# Altium footprint library leadic_footp.PcbLib: 46 footprints (part 2 of 3)
Each footprint in its own frame and in the unit in brackets; x right, y up, seen from the top. Pads: shape width x height; smd on the part's side, far side on the other; paste and mask are expansions set on the pad; w line width, h text height; cw(c..) or ccw(c..) is an arc to the next point about the centre after c.
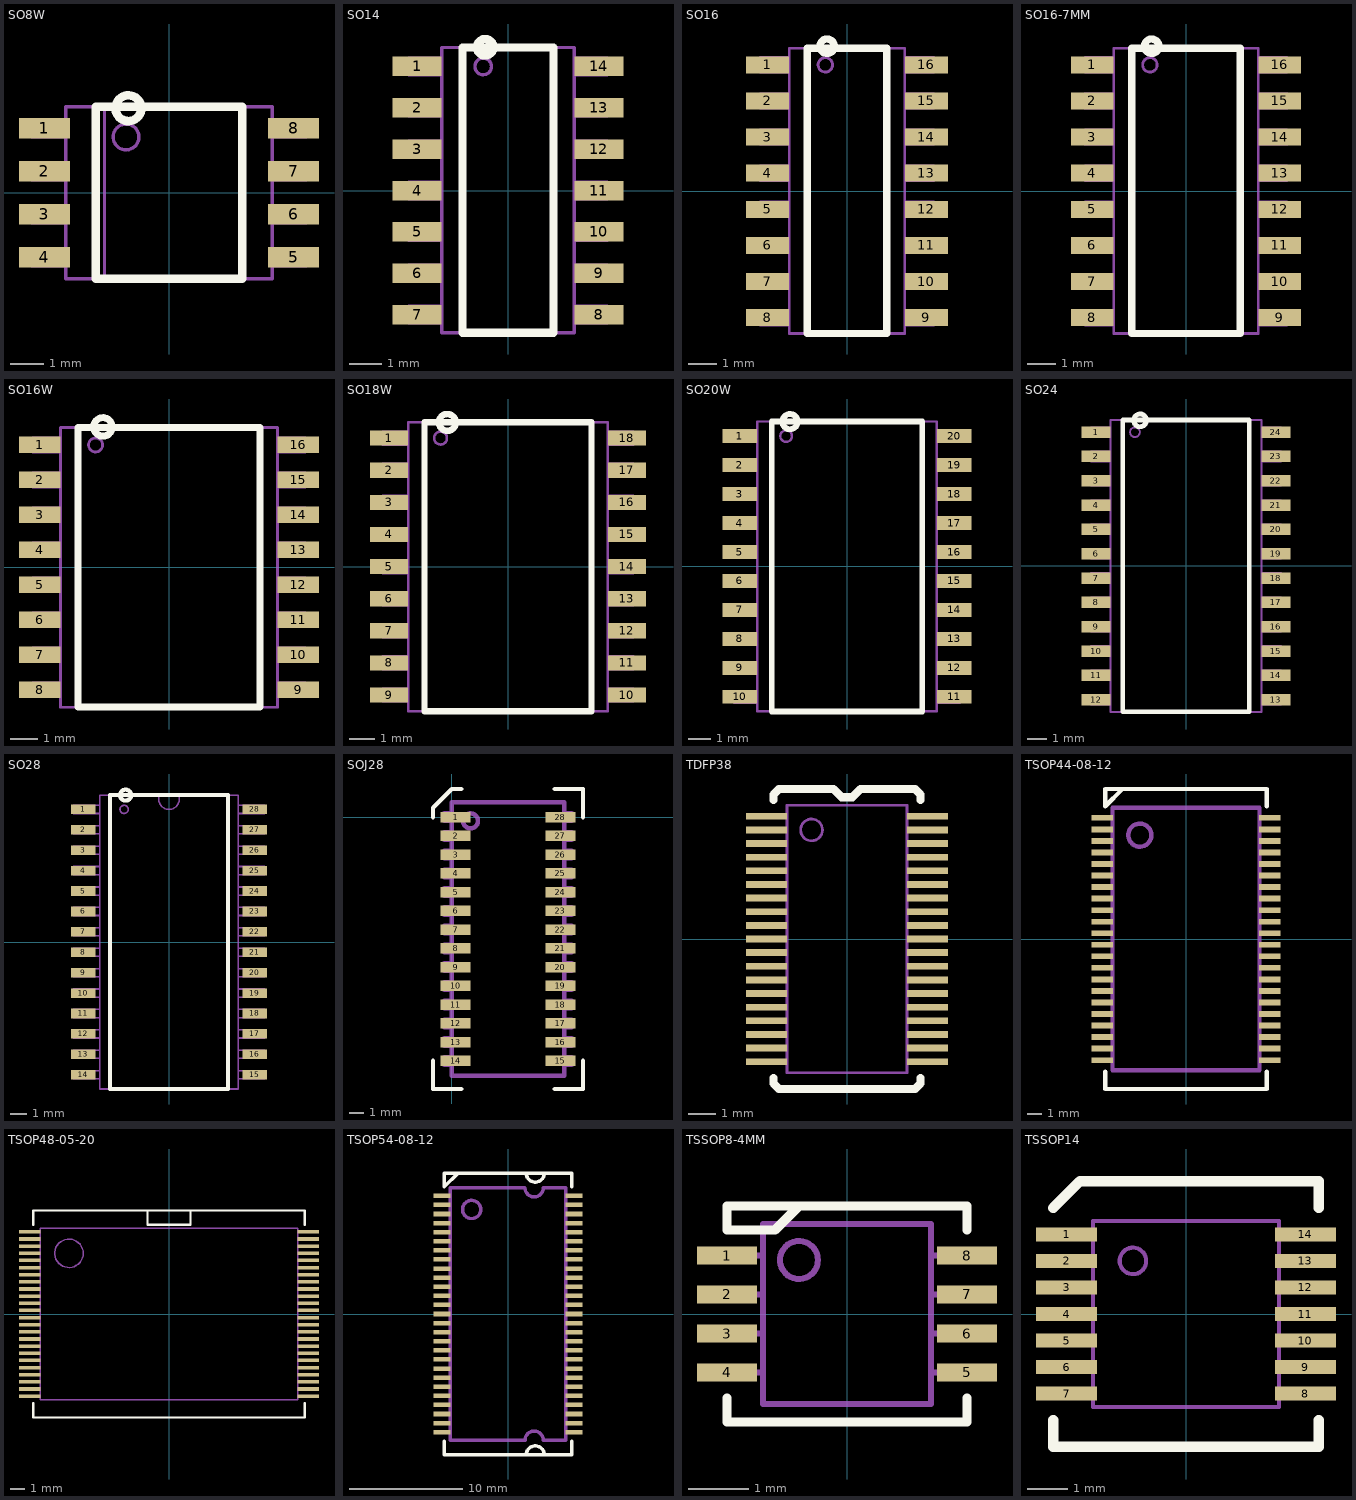
[diagram p1: the footprints below, top view; thin cyan lines are the x and y axes]

## SO8W [mm]
pads (8):
  rect 1.5x0.6 smd: 1(-3.683,1.905) 2(-3.683,0.635) 3(-3.683,-0.635) 4(-3.683,-1.905) 5(3.683,-1.905) 6(3.683,-0.635) 7(3.683,0.635) 8(3.683,1.905)
Top Overlay:
  circle w0.254: c-1.2,2.5 r0.381
  lines w0.254: -2.159,-2.54 2.159,-2.54 2.159,2.54 -2.159,2.54 -2.159,-2.54
Mechanical 1:
  circle w0.1: c-1.27,1.651 r0.381
  lines w0.1: -3.048,-2.159 -4.064,-2.159 -4.064,-1.651 -3.048,-1.651 ; -3.048,-0.889 -4.064,-0.889 -4.064,-0.381 -3.048,-0.381 ; -3.048,0.381 -4.064,0.381 -4.064,0.889 -3.048,0.889 ; -3.048,1.651 -4.064,1.651 -4.064,2.159 -3.048,2.159 ; -1.905,-2.54 -1.905,2.54 ; 3.048,-2.159 4.064,-2.159 4.064,-1.651 3.048,-1.651 ; 3.048,-0.889 4.064,-0.889 4.064,-0.381 3.048,-0.381 ; 3.048,0.381 4.064,0.381 4.064,0.889 3.048,0.889 ; 3.048,1.651 4.064,1.651 4.064,2.159 3.048,2.159 ; -3.048,-2.54 3.048,-2.54 3.048,2.54 -3.048,2.54 -3.048,-2.54
3D body: height 1.8, standoff 0.2, extent -2.9,-2.5 2.9,2.5
3D body: height 1.1, standoff 0, extent 1.691,-0.885 4.191,-0.385
3D body: height 1.1, standoff 0, extent 1.691,-2.155 4.191,-1.655
3D body: height 1.1, standoff 0, extent 1.691,1.655 4.191,2.155
3D body: height 1.1, standoff 0, extent 1.691,0.385 4.191,0.885
3D body: height 1.1, standoff 0, extent -4.191,-0.885 -1.691,-0.385
3D body: height 1.1, standoff 0, extent -4.191,-2.155 -1.691,-1.655
3D body: height 1.1, standoff 0, extent -4.191,1.655 -1.691,2.155
3D body: height 1.1, standoff 0, extent -4.191,0.385 -1.691,0.885

## SO14 [mm]
pads (14):
  rect 1.5x0.6 smd: 1(-2.794,3.81) 2(-2.794,2.54) 3(-2.794,1.27) 4(-2.794,0) 5(-2.794,-1.27) 6(-2.794,-2.54) 7(-2.794,-3.81) 8(2.794,-3.81) 9(2.794,-2.54) 10(2.794,-1.27) 11(2.794,0) 12(2.794,1.27) 13(2.794,2.54) 14(2.794,3.81)
Top Overlay:
  circle w0.254: c-0.7,4.4 r0.254
  lines w0.254: -1.397,-4.369 -1.397,4.394 1.397,4.394 1.397,-4.369 -1.397,-4.369
Mechanical 1:
  circle w0.1: c-0.762,3.81 r0.254
  lines w0.1: -2.032,-4.064 -3.048,-4.064 -3.048,-3.556 -2.032,-3.556 ; -2.032,-2.794 -3.048,-2.794 -3.048,-2.286 -2.032,-2.286 ; -2.032,-1.524 -3.048,-1.524 -3.048,-1.016 -2.032,-1.016 ; -2.032,-0.254 -3.048,-0.254 -3.048,0.254 -2.032,0.254 ; -2.032,1.016 -3.048,1.016 -3.048,1.524 -2.032,1.524 ; -2.032,2.286 -3.048,2.286 -3.048,2.794 -2.032,2.794 ; -2.032,3.556 -3.048,3.556 -3.048,4.064 -2.032,4.064 ; -1.397,-4.369 -1.397,4.394 ; 2.032,-4.064 3.048,-4.064 3.048,-3.556 2.032,-3.556 ; 2.032,-2.794 3.048,-2.794 3.048,-2.286 2.032,-2.286 ; 2.032,-1.524 3.048,-1.524 3.048,-1.016 2.032,-1.016 ; 2.032,-0.254 3.048,-0.254 3.048,0.254 2.032,0.254 ; 2.032,1.016 3.048,1.016 3.048,1.524 2.032,1.524 ; 2.032,2.286 3.048,2.286 3.048,2.794 2.032,2.794 ; 2.032,3.556 3.048,3.556 3.048,4.064 2.032,4.064 ; -2.032,-4.369 -2.032,4.394 2.032,4.394 2.032,-4.369 -2.032,-4.369
3D body: height 1.1, standoff 0, extent -3.175,-2.79 -0.675,-2.29
3D body: height 1.1, standoff 0, extent -3.175,-4.06 -0.675,-3.56
3D body: height 1.1, standoff 0, extent -3.175,-0.25 -0.675,0.25
3D body: height 1.1, standoff 0, extent -3.175,-1.52 -0.675,-1.02
3D body: height 1.1, standoff 0, extent -3.175,1.02 -0.675,1.52
3D body: height 1.1, standoff 0, extent -3.175,2.29 -0.675,2.79
3D body: height 1.1, standoff 0, extent 0.675,-4.06 3.175,-3.56
3D body: height 1.1, standoff 0, extent 0.675,-1.52 3.175,-1.02
3D body: height 1.1, standoff 0, extent 0.675,-2.79 3.175,-2.29
3D body: height 1.1, standoff 0, extent 0.675,1.02 3.175,1.52
3D body: height 1.1, standoff 0, extent 0.675,-0.25 3.175,0.25
3D body: height 1.1, standoff 0, extent 0.675,3.56 3.175,4.06
3D body: height 1.1, standoff 0, extent 0.675,2.29 3.175,2.79
3D body: height 1.1, standoff 0, extent -3.175,3.56 -0.675,4.06
3D body: height 1.8, standoff 0.2, extent -1.9,-4.4 1.91,4.4

## SO16 [mm] "6mm wide"
height 1.8
pads (16):
  rect 1.5x0.6 smd: 1(-2.794,4.445) 2(-2.794,3.175) 3(-2.794,1.905) 4(-2.794,0.635) 5(-2.794,-0.635) 6(-2.794,-1.905) 7(-2.794,-3.175) 8(-2.794,-4.445) 9(2.794,-4.445) 10(2.794,-3.175) 11(2.794,-1.905) 12(2.794,-0.635) 13(2.794,0.635) 14(2.794,1.905) 15(2.794,3.175) 16(2.794,4.445)
Top Overlay:
  circle w0.254: c-0.7,5.1 r0.254
  lines w0.254: -1.397,-5.004 1.397,-5.004 1.397,5.029 -1.397,5.029 -1.397,-5.004
Mechanical 1:
  circle w0.1: c-0.762,4.445 r0.254
  lines w0.1: -2.032,-4.699 -3.048,-4.699 -3.048,-4.191 -2.032,-4.191 ; -2.032,-3.429 -3.048,-3.429 -3.048,-2.921 -2.032,-2.921 ; -2.032,-2.159 -3.048,-2.159 -3.048,-1.651 -2.032,-1.651 ; -2.032,-0.889 -3.048,-0.889 -3.048,-0.381 -2.032,-0.381 ; -2.032,0.381 -3.048,0.381 -3.048,0.889 -2.032,0.889 ; -2.032,1.651 -3.048,1.651 -3.048,2.159 -2.032,2.159 ; -2.032,2.921 -3.048,2.921 -3.048,3.429 -2.032,3.429 ; -2.032,4.191 -3.048,4.191 -3.048,4.699 -2.032,4.699 ; -1.397,-5.004 -1.397,5.029 ; 2.032,-4.699 3.048,-4.699 3.048,-4.191 2.032,-4.191 ; 2.032,-3.429 3.048,-3.429 3.048,-2.921 2.032,-2.921 ; 2.032,-2.159 3.048,-2.159 3.048,-1.651 2.032,-1.651 ; 2.032,-0.889 3.048,-0.889 3.048,-0.381 2.032,-0.381 ; 2.032,0.381 3.048,0.381 3.048,0.889 2.032,0.889 ; 2.032,1.651 3.048,1.651 3.048,2.159 2.032,2.159 ; 2.032,2.921 3.048,2.921 3.048,3.429 2.032,3.429 ; 2.032,4.191 3.048,4.191 3.048,4.699 2.032,4.699 ; -2.032,-5.004 2.032,-5.004 2.032,5.029 -2.032,5.029 -2.032,-5.004
3D body: height 1.8, standoff 0.2, extent -1.9,-5 1.91,5
3D body: height 1.1, standoff 0, extent -3.175,-4.695 -0.675,-4.195
3D body: height 1.1, standoff 0, extent -3.175,-2.155 -0.675,-1.655
3D body: height 1.1, standoff 0, extent -3.175,-3.425 -0.675,-2.925
3D body: height 1.1, standoff 0, extent -3.175,0.385 -0.675,0.885
3D body: height 1.1, standoff 0, extent -3.175,-0.885 -0.675,-0.385
3D body: height 1.1, standoff 0, extent -3.175,1.655 -0.675,2.155
3D body: height 1.1, standoff 0, extent -3.175,2.925 -0.675,3.425
3D body: height 1.1, standoff 0, extent 0.675,-4.695 3.175,-4.195
3D body: height 1.1, standoff 0, extent 0.675,-3.425 3.175,-2.925
3D body: height 1.1, standoff 0, extent 0.675,-0.885 3.175,-0.385
3D body: height 1.1, standoff 0, extent 0.675,-2.155 3.175,-1.655
3D body: height 1.1, standoff 0, extent 0.675,1.655 3.175,2.155
3D body: height 1.1, standoff 0, extent 0.675,0.385 3.175,0.885
3D body: height 1.1, standoff 0, extent 0.675,4.195 3.175,4.695
3D body: height 1.1, standoff 0, extent 0.675,2.925 3.175,3.425
3D body: height 1.1, standoff 0, extent -3.175,4.195 -0.675,4.695

## SO16-7MM [mm] "7mm wide"
height 1.8
pads (16):
  rect 1.5x0.6 smd: 1(-3.302,4.445) 2(-3.302,3.175) 3(-3.302,1.905) 4(-3.302,0.635) 5(-3.302,-0.635) 6(-3.302,-1.905) 7(-3.302,-3.175) 8(-3.302,-4.445) 9(3.302,-4.445) 10(3.302,-3.175) 11(3.302,-1.905) 12(3.302,-0.635) 13(3.302,0.635) 14(3.302,1.905) 15(3.302,3.175) 16(3.302,4.445)
Top Overlay:
  circle w0.254: c-1.208,5.1 r0.254
  lines w0.254: -1.905,-5.004 -1.905,5.029 1.905,5.029 1.905,-5.004 -1.905,-5.004
Mechanical 1:
  circle w0.1: c-1.27,4.445 r0.254
  lines w0.1: -2.54,-4.699 -3.556,-4.699 -3.556,-4.191 -2.54,-4.191 ; -2.54,-3.429 -3.556,-3.429 -3.556,-2.921 -2.54,-2.921 ; -2.54,-2.159 -3.556,-2.159 -3.556,-1.651 -2.54,-1.651 ; -2.54,-0.889 -3.556,-0.889 -3.556,-0.381 -2.54,-0.381 ; -2.54,0.381 -3.556,0.381 -3.556,0.889 -2.54,0.889 ; -2.54,1.651 -3.556,1.651 -3.556,2.159 -2.54,2.159 ; -2.54,2.921 -3.556,2.921 -3.556,3.429 -2.54,3.429 ; -2.54,4.191 -3.556,4.191 -3.556,4.699 -2.54,4.699 ; -1.905,-5.004 -1.905,5.029 ; 2.54,-4.699 3.556,-4.699 3.556,-4.191 2.54,-4.191 ; 2.54,-3.429 3.556,-3.429 3.556,-2.921 2.54,-2.921 ; 2.54,-2.159 3.556,-2.159 3.556,-1.651 2.54,-1.651 ; 2.54,-0.889 3.556,-0.889 3.556,-0.381 2.54,-0.381 ; 2.54,0.381 3.556,0.381 3.556,0.889 2.54,0.889 ; 2.54,1.651 3.556,1.651 3.556,2.159 2.54,2.159 ; 2.54,2.921 3.556,2.921 3.556,3.429 2.54,3.429 ; 2.54,4.191 3.556,4.191 3.556,4.699 2.54,4.699 ; -2.54,-5.004 -2.54,5.029 2.54,5.029 2.54,-5.004 -2.54,-5.004
3D body: height 1.1, standoff 0, extent -3.683,4.195 -1.183,4.695
3D body: height 1.1, standoff 0, extent 1.183,2.925 3.683,3.425
3D body: height 1.1, standoff 0, extent 1.183,4.195 3.683,4.695
3D body: height 1.1, standoff 0, extent 1.183,0.385 3.683,0.885
3D body: height 1.1, standoff 0, extent 1.183,1.655 3.683,2.155
3D body: height 1.1, standoff 0, extent 1.183,-2.155 3.683,-1.655
3D body: height 1.1, standoff 0, extent 1.183,-0.885 3.683,-0.385
3D body: height 1.1, standoff 0, extent 1.183,-3.425 3.683,-2.925
3D body: height 1.1, standoff 0, extent 1.183,-4.695 3.683,-4.195
3D body: height 1.1, standoff 0, extent -3.683,2.925 -1.183,3.425
3D body: height 1.1, standoff 0, extent -3.683,1.655 -1.183,2.155
3D body: height 1.1, standoff 0, extent -3.683,-0.885 -1.183,-0.385
3D body: height 1.1, standoff 0, extent -3.683,0.385 -1.183,0.885
3D body: height 1.1, standoff 0, extent -3.683,-3.425 -1.183,-2.925
3D body: height 1.1, standoff 0, extent -3.683,-2.155 -1.183,-1.655
3D body: height 1.1, standoff 0, extent -3.683,-4.695 -1.183,-4.195
3D body: height 1.8, standoff 0.2, extent -2.408,-5 2.413,5

## SO16W [mm]
height 1.8
pads (16):
  rect 1.5x0.6 smd: 1(-4.699,4.445) 2(-4.699,3.175) 3(-4.699,1.905) 4(-4.699,0.635) 5(-4.699,-0.635) 6(-4.699,-1.905) 7(-4.699,-3.175) 8(-4.699,-4.445) 9(4.699,-4.445) 10(4.699,-3.175) 11(4.699,-1.905) 12(4.699,-0.635) 13(4.699,0.635) 14(4.699,1.905) 15(4.699,3.175) 16(4.699,4.445)
Top Overlay:
  circle w0.254: c-2.4,5.1 r0.336
  lines w0.254: -3.302,-5.08 3.302,-5.08 3.302,5.08 -3.302,5.08 -3.302,-5.08
Mechanical 1:
  circle w0.1: c-2.667,4.445 r0.254
  lines w0.1: -3.937,-4.699 -4.953,-4.699 -4.953,-4.191 -3.937,-4.191 ; -3.937,-3.429 -4.953,-3.429 -4.953,-2.921 -3.937,-2.921 ; -3.937,-2.159 -4.953,-2.159 -4.953,-1.651 -3.937,-1.651 ; -3.937,-0.889 -4.953,-0.889 -4.953,-0.381 -3.937,-0.381 ; -3.937,0.381 -4.953,0.381 -4.953,0.889 -3.937,0.889 ; -3.937,1.651 -4.953,1.651 -4.953,2.159 -3.937,2.159 ; -3.937,2.921 -4.953,2.921 -4.953,3.429 -3.937,3.429 ; -3.937,4.191 -4.953,4.191 -4.953,4.699 -3.937,4.699 ; -3.302,-5.08 -3.302,5.08 ; 3.937,-4.699 4.953,-4.699 4.953,-4.191 3.937,-4.191 ; 3.937,-3.429 4.953,-3.429 4.953,-2.921 3.937,-2.921 ; 3.937,-2.159 4.953,-2.159 4.953,-1.651 3.937,-1.651 ; 3.937,-0.889 4.953,-0.889 4.953,-0.381 3.937,-0.381 ; 3.937,0.381 4.953,0.381 4.953,0.889 3.937,0.889 ; 3.937,1.651 4.953,1.651 4.953,2.159 3.937,2.159 ; 3.937,2.921 4.953,2.921 4.953,3.429 3.937,3.429 ; 3.937,4.191 4.953,4.191 4.953,4.699 3.937,4.699 ; -3.937,-5.08 3.937,-5.08 3.937,5.08 -3.937,5.08 -3.937,-5.08
3D body: height 1.1, standoff 0, extent -5.08,4.195 -2.58,4.695
3D body: height 1.1, standoff 0, extent -5.08,2.925 -2.58,3.425
3D body: height 1.1, standoff 0, extent -5.08,0.385 -2.58,0.885
3D body: height 1.1, standoff 0, extent -5.08,1.655 -2.58,2.155
3D body: height 1.1, standoff 0, extent -5.08,-2.155 -2.58,-1.655
3D body: height 1.1, standoff 0, extent -5.08,-0.885 -2.58,-0.385
3D body: height 1.1, standoff 0, extent -5.08,-4.695 -2.58,-4.195
3D body: height 1.1, standoff 0, extent -5.08,-3.425 -2.58,-2.925
3D body: height 1.1, standoff 0, extent 2.58,2.925 5.08,3.425
3D body: height 1.1, standoff 0, extent 2.58,4.195 5.08,4.695
3D body: height 1.1, standoff 0, extent 2.58,0.385 5.08,0.885
3D body: height 1.1, standoff 0, extent 2.58,1.655 5.08,2.155
3D body: height 1.1, standoff 0, extent 2.58,-2.155 5.08,-1.655
3D body: height 1.1, standoff 0, extent 2.58,-0.885 5.08,-0.385
3D body: height 1.1, standoff 0, extent 2.58,-3.425 5.08,-2.925
3D body: height 1.1, standoff 0, extent 2.58,-4.695 5.08,-4.195
3D body: height 1.8, standoff 0.2, extent -3.8,-5.1 3.8,5.1

## SO18W [mm]
height 1.8
pads (18):
  rect 1.5x0.6 smd: 1(-4.699,5.08) 2(-4.699,3.81) 3(-4.699,2.54) 4(-4.699,1.27) 5(-4.699,0) 6(-4.699,-1.27) 7(-4.699,-2.54) 8(-4.699,-3.81) 9(-4.699,-5.08) 10(4.699,-5.08) 11(4.699,-3.81) 12(4.699,-2.54) 13(4.699,-1.27) 14(4.699,0) 15(4.699,1.27) 16(4.699,2.54) 17(4.699,3.81) 18(4.699,5.08)
Top Overlay:
  circle w0.254: c-2.4,5.7 r0.334
  lines w0.254: -3.302,-5.715 -3.302,5.715 3.302,5.715 3.302,-5.715 -3.302,-5.715
Mechanical 1:
  circle w0.1: c-2.667,5.08 r0.254
  lines w0.1: -3.937,-5.334 -4.953,-5.334 -4.953,-4.826 -3.937,-4.826 ; -3.937,-4.064 -4.953,-4.064 -4.953,-3.556 -3.937,-3.556 ; -3.937,-2.794 -4.953,-2.794 -4.953,-2.286 -3.937,-2.286 ; -3.937,-1.524 -4.953,-1.524 -4.953,-1.016 -3.937,-1.016 ; -3.937,-0.254 -4.953,-0.254 -4.953,0.254 -3.937,0.254 ; -3.937,1.016 -4.953,1.016 -4.953,1.524 -3.937,1.524 ; -3.937,2.286 -4.953,2.286 -4.953,2.794 -3.937,2.794 ; -3.937,3.556 -4.953,3.556 -4.953,4.064 -3.937,4.064 ; -3.937,4.826 -4.953,4.826 -4.953,5.334 -3.937,5.334 ; -3.302,-5.715 -3.302,5.715 ; 3.937,-5.334 4.953,-5.334 4.953,-4.826 3.937,-4.826 ; 3.937,-4.064 4.953,-4.064 4.953,-3.556 3.937,-3.556 ; 3.937,-2.794 4.953,-2.794 4.953,-2.286 3.937,-2.286 ; 3.937,-1.524 4.953,-1.524 4.953,-1.016 3.937,-1.016 ; 3.937,-0.254 4.953,-0.254 4.953,0.254 3.937,0.254 ; 3.937,1.016 4.953,1.016 4.953,1.524 3.937,1.524 ; 3.937,2.286 4.953,2.286 4.953,2.794 3.937,2.794 ; 3.937,3.556 4.953,3.556 4.953,4.064 3.937,4.064 ; 3.937,4.826 4.953,4.826 4.953,5.334 3.937,5.334 ; -3.937,-5.715 -3.937,5.715 3.937,5.715 3.937,-5.715 -3.937,-5.715
3D body: height 1.1, standoff 0, extent -5.08,-5.33 -2.58,-4.83
3D body: height 1.1, standoff 0, extent 2.58,-5.33 5.08,-4.83
3D body: height 1.1, standoff 0, extent 2.58,-4.06 5.08,-3.56
3D body: height 1.1, standoff 0, extent 2.58,-2.79 5.08,-2.29
3D body: height 1.1, standoff 0, extent 2.58,-0.25 5.08,0.25
3D body: height 1.1, standoff 0, extent 2.58,-1.52 5.08,-1.02
3D body: height 1.1, standoff 0, extent 2.58,2.29 5.08,2.79
3D body: height 1.1, standoff 0, extent 2.58,1.02 5.08,1.52
3D body: height 1.1, standoff 0, extent 2.58,4.83 5.08,5.33
3D body: height 1.1, standoff 0, extent 2.58,3.56 5.08,4.06
3D body: height 1.1, standoff 0, extent -5.08,-2.79 -2.58,-2.29
3D body: height 1.1, standoff 0, extent -5.08,-4.06 -2.58,-3.56
3D body: height 1.1, standoff 0, extent -5.08,-0.25 -2.58,0.25
3D body: height 1.1, standoff 0, extent -5.08,-1.52 -2.58,-1.02
3D body: height 1.1, standoff 0, extent -5.08,2.29 -2.58,2.79
3D body: height 1.1, standoff 0, extent -5.08,1.02 -2.58,1.52
3D body: height 1.1, standoff 0, extent -5.08,3.56 -2.58,4.06
3D body: height 1.1, standoff 0, extent -5.08,4.83 -2.58,5.33
3D body: height 1.8, standoff 0.2, extent -3.8,-5.7 3.8,5.7

## SO20W [mm]
height 1.8
pads (20):
  rect 1.5x0.6 smd: 1(-4.699,5.715) 2(-4.699,4.445) 3(-4.699,3.175) 4(-4.699,1.905) 5(-4.699,0.635) 6(-4.699,-0.635) 7(-4.699,-1.905) 8(-4.699,-3.175) 9(-4.699,-4.445) 10(-4.699,-5.715) 11(4.699,-5.715) 12(4.699,-4.445) 13(4.699,-3.175) 14(4.699,-1.905) 15(4.699,-0.635) 16(4.699,0.635) 17(4.699,1.905) 18(4.699,3.175) 19(4.699,4.445) 20(4.699,5.715)
Top Overlay:
  circle w0.254: c-2.5,6.35 r0.333
  lines w0.254: -3.302,-6.35 -3.302,6.35 3.302,6.35 3.302,-6.35 -3.302,-6.35
Mechanical 1:
  circle w0.1: c-2.667,5.715 r0.254
  lines w0.1: -3.937,-5.969 -4.953,-5.969 -4.953,-5.461 -3.937,-5.461 ; -3.937,-4.699 -4.953,-4.699 -4.953,-4.191 -3.937,-4.191 ; -3.937,-3.429 -4.953,-3.429 -4.953,-2.921 -3.937,-2.921 ; -3.937,-2.159 -4.953,-2.159 -4.953,-1.651 -3.937,-1.651 ; -3.937,-0.889 -4.953,-0.889 -4.953,-0.381 -3.937,-0.381 ; -3.937,0.381 -4.953,0.381 -4.953,0.889 -3.937,0.889 ; -3.937,1.651 -4.953,1.651 -4.953,2.159 -3.937,2.159 ; -3.937,2.921 -4.953,2.921 -4.953,3.429 -3.937,3.429 ; -3.937,4.191 -4.953,4.191 -4.953,4.699 -3.937,4.699 ; -3.937,5.461 -4.953,5.461 -4.953,5.969 -3.937,5.969 ; -3.302,-6.35 -3.302,6.35 ; 3.937,-5.969 4.953,-5.969 4.953,-5.461 3.937,-5.461 ; 3.937,-4.699 4.953,-4.699 4.953,-4.191 3.937,-4.191 ; 3.937,-3.429 4.953,-3.429 4.953,-2.921 3.937,-2.921 ; 3.937,-2.159 4.953,-2.159 4.953,-1.651 3.937,-1.651 ; 3.937,-0.889 4.953,-0.889 4.953,-0.381 3.937,-0.381 ; 3.937,0.381 4.953,0.381 4.953,0.889 3.937,0.889 ; 3.937,1.651 4.953,1.651 4.953,2.159 3.937,2.159 ; 3.937,2.921 4.953,2.921 4.953,3.429 3.937,3.429 ; 3.937,4.191 4.953,4.191 4.953,4.699 3.937,4.699 ; 3.937,5.461 4.953,5.461 4.953,5.969 3.937,5.969 ; -3.937,-6.35 -3.937,6.35 3.937,6.35 3.937,-6.35 -3.937,-6.35
3D body: height 1.1, standoff 0, extent -5.08,5.465 -2.58,5.965
3D body: height 1.1, standoff 0, extent -5.08,4.195 -2.58,4.695
3D body: height 1.1, standoff 0, extent -5.08,1.655 -2.58,2.155
3D body: height 1.1, standoff 0, extent -5.08,2.925 -2.58,3.425
3D body: height 1.1, standoff 0, extent -5.08,-0.885 -2.58,-0.385
3D body: height 1.1, standoff 0, extent -5.08,0.385 -2.58,0.885
3D body: height 1.1, standoff 0, extent -5.08,-3.425 -2.58,-2.925
3D body: height 1.1, standoff 0, extent -5.08,-2.155 -2.58,-1.655
3D body: height 1.1, standoff 0, extent 2.58,4.195 5.08,4.695
3D body: height 1.1, standoff 0, extent 2.58,5.465 5.08,5.965
3D body: height 1.1, standoff 0, extent 2.58,1.655 5.08,2.155
3D body: height 1.1, standoff 0, extent 2.58,2.925 5.08,3.425
3D body: height 1.1, standoff 0, extent 2.58,-0.885 5.08,-0.385
3D body: height 1.1, standoff 0, extent 2.58,0.385 5.08,0.885
3D body: height 1.1, standoff 0, extent 2.58,-2.155 5.08,-1.655
3D body: height 1.1, standoff 0, extent 2.58,-3.425 5.08,-2.925
3D body: height 1.1, standoff 0, extent 2.58,-5.965 5.08,-5.465
3D body: height 1.1, standoff 0, extent 2.58,-4.695 5.08,-4.195
3D body: height 1.1, standoff 0, extent -5.08,-4.695 -2.58,-4.195
3D body: height 1.1, standoff 0, extent -5.08,-5.965 -2.58,-5.465
3D body: height 1.8, standoff 0.2, extent -3.8,-6.4 3.8,6.4

## SO24 [mm]
height 1.8
pads (24):
  rect 1.5x0.6 smd: 1(-4.699,6.985) 2(-4.699,5.715) 3(-4.699,4.445) 4(-4.699,3.175) 5(-4.699,1.905) 6(-4.699,0.635) 7(-4.699,-0.635) 8(-4.699,-1.905) 9(-4.699,-3.175) 10(-4.699,-4.445) 11(-4.699,-5.715) 12(-4.699,-6.985) 13(4.699,-6.985) 14(4.699,-5.715) 15(4.699,-4.445) 16(4.699,-3.175) 17(4.699,-1.905) 18(4.699,-0.635) 19(4.699,0.635) 20(4.699,1.905) 21(4.699,3.175) 22(4.699,4.445) 23(4.699,5.715) 24(4.699,6.985)
Top Overlay:
  circle w0.254: c-2.4,7.6 r0.333
  lines w0.254: -3.302,-7.62 3.302,-7.62 3.302,7.62 -3.302,7.62 -3.302,-7.62
Mechanical 1:
  circle w0.1: c-2.667,6.985 r0.254
  lines w0.1: -3.937,-7.239 -4.953,-7.239 -4.953,-6.731 -3.937,-6.731 ; -3.937,-5.969 -4.953,-5.969 -4.953,-5.461 -3.937,-5.461 ; -3.937,-4.699 -4.953,-4.699 -4.953,-4.191 -3.937,-4.191 ; -3.937,-3.429 -4.953,-3.429 -4.953,-2.921 -3.937,-2.921 ; -3.937,-2.159 -4.953,-2.159 -4.953,-1.651 -3.937,-1.651 ; -3.937,-0.889 -4.953,-0.889 -4.953,-0.381 -3.937,-0.381 ; -3.937,0.381 -4.953,0.381 -4.953,0.889 -3.937,0.889 ; -3.937,1.651 -4.953,1.651 -4.953,2.159 -3.937,2.159 ; -3.937,2.921 -4.953,2.921 -4.953,3.429 -3.937,3.429 ; -3.937,4.191 -4.953,4.191 -4.953,4.699 -3.937,4.699 ; -3.937,5.461 -4.953,5.461 -4.953,5.969 -3.937,5.969 ; -3.937,6.731 -4.953,6.731 -4.953,7.239 -3.937,7.239 ; -3.302,-7.62 -3.302,7.62 ; 3.937,-7.239 4.953,-7.239 4.953,-6.731 3.937,-6.731 ; 3.937,-5.969 4.953,-5.969 4.953,-5.461 3.937,-5.461 ; 3.937,-4.699 4.953,-4.699 4.953,-4.191 3.937,-4.191 ; 3.937,-3.429 4.953,-3.429 4.953,-2.921 3.937,-2.921 ; 3.937,-2.159 4.953,-2.159 4.953,-1.651 3.937,-1.651 ; 3.937,-0.889 4.953,-0.889 4.953,-0.381 3.937,-0.381 ; 3.937,0.381 4.953,0.381 4.953,0.889 3.937,0.889 ; 3.937,1.651 4.953,1.651 4.953,2.159 3.937,2.159 ; 3.937,2.921 4.953,2.921 4.953,3.429 3.937,3.429 ; 3.937,4.191 4.953,4.191 4.953,4.699 3.937,4.699 ; 3.937,5.461 4.953,5.461 4.953,5.969 3.937,5.969 ; 3.937,6.731 4.953,6.731 4.953,7.239 3.937,7.239 ; -3.937,-7.62 3.937,-7.62 3.937,7.62 -3.937,7.62 -3.937,-7.62

## SO28 [mm]
height 1.8
pads (28):
  rect 1.5x0.6 smd: 1(-5.334,8.255) 2(-5.334,6.985) 3(-5.334,5.715) 4(-5.334,4.445) 5(-5.334,3.175) 6(-5.334,1.905) 7(-5.334,0.635) 8(-5.334,-0.635) 9(-5.334,-1.905) 10(-5.334,-3.175) 11(-5.334,-4.445) 12(-5.334,-5.715) 13(-5.334,-6.985) 14(-5.334,-8.255) 15(5.334,-8.255) 16(5.334,-6.985) 17(5.334,-5.715) 18(5.334,-4.445) 19(5.334,-3.175) 20(5.334,-1.905) 21(5.334,-0.635) 22(5.334,0.635) 23(5.334,1.905) 24(5.334,3.175) 25(5.334,4.445) 26(5.334,5.715) 27(5.334,6.985) 28(5.334,8.255)
Top Overlay:
  circle w0.254: c-2.7,9.144 r0.343
  lines w0.254: -3.683,-9.144 -3.683,9.144 3.683,9.144 3.683,-9.144 -3.683,-9.144
Mechanical 1:
  circle w0.1: c-2.794,8.255 r0.254
  lines w0.1: -4.318,-8.509 -5.969,-8.509 -5.969,-8.001 -4.318,-8.001 ; -4.318,-7.239 -5.969,-7.239 -5.969,-6.731 -4.318,-6.731 ; -4.318,-5.969 -5.969,-5.969 -5.969,-5.461 -4.318,-5.461 ; -4.318,-4.699 -5.969,-4.699 -5.969,-4.191 -4.318,-4.191 ; -4.318,-3.429 -5.969,-3.429 -5.969,-2.921 -4.318,-2.921 ; -4.318,-2.159 -5.969,-2.159 -5.969,-1.651 -4.318,-1.651 ; -4.318,-0.889 -5.969,-0.889 -5.969,-0.381 -4.318,-0.381 ; -4.318,0.381 -5.969,0.381 -5.969,0.889 -4.318,0.889 ; -4.318,1.651 -5.969,1.651 -5.969,2.159 -4.318,2.159 ; -4.318,2.921 -5.969,2.921 -5.969,3.429 -4.318,3.429 ; -4.318,4.191 -5.969,4.191 -5.969,4.699 -4.318,4.699 ; -4.318,5.461 -5.969,5.461 -5.969,5.969 -4.318,5.969 ; -4.318,6.731 -5.969,6.731 -5.969,7.239 -4.318,7.239 ; -4.318,8.001 -5.969,8.001 -5.969,8.509 -4.318,8.509 ; -3.683,-9.144 -3.683,9.144 ; -0.635,9.144 -0.635,8.89 ccw(c0,8.89) 0.635,8.89 0.635,9.144 ; 4.318,-8.509 5.969,-8.509 5.969,-8.001 4.318,-8.001 ; 4.318,-7.239 5.969,-7.239 5.969,-6.731 4.318,-6.731 ; 4.318,-5.969 5.969,-5.969 5.969,-5.461 4.318,-5.461 ; 4.318,-4.699 5.969,-4.699 5.969,-4.191 4.318,-4.191 ; 4.318,-3.429 5.969,-3.429 5.969,-2.921 4.318,-2.921 ; 4.318,-2.159 5.969,-2.159 5.969,-1.651 4.318,-1.651 ; 4.318,-0.889 5.969,-0.889 5.969,-0.381 4.318,-0.381 ; 4.318,0.381 5.969,0.381 5.969,0.889 4.318,0.889 ; 4.318,1.651 5.969,1.651 5.969,2.159 4.318,2.159 ; 4.318,2.921 5.969,2.921 5.969,3.429 4.318,3.429 ; 4.318,4.191 5.969,4.191 5.969,4.699 4.318,4.699 ; 4.318,5.461 5.969,5.461 5.969,5.969 4.318,5.969 ; 4.318,6.731 5.969,6.731 5.969,7.239 4.318,7.239 ; 4.318,8.001 5.969,8.001 5.969,8.509 4.318,8.509 ; -4.318,-9.144 -4.318,9.144 4.318,9.144 4.318,-9.144 -4.318,-9.144
3D body: height 1.8, standoff 0.2, extent -4,-8.9 4,9
3D body: height 1.1, standoff 0, extent -5.715,-3.425 -3.215,-2.925
3D body: height 1.1, standoff 0, extent -5.715,-2.155 -3.215,-1.655
3D body: height 1.1, standoff 0, extent -5.715,-5.965 -3.215,-5.465
3D body: height 1.1, standoff 0, extent -5.715,-4.695 -3.215,-4.195
3D body: height 1.1, standoff 0, extent -5.715,-8.505 -3.215,-8.005
3D body: height 1.1, standoff 0, extent -5.715,-7.235 -3.215,-6.735
3D body: height 1.1, standoff 0, extent 3.215,-3.425 5.715,-2.925
3D body: height 1.1, standoff 0, extent 3.215,-2.155 5.715,-1.655
3D body: height 1.1, standoff 0, extent 3.215,-5.965 5.715,-5.465
3D body: height 1.1, standoff 0, extent 3.215,-4.695 5.715,-4.195
3D body: height 1.1, standoff 0, extent 3.215,-7.235 5.715,-6.735
3D body: height 1.1, standoff 0, extent 3.215,-8.505 5.715,-8.005
3D body: height 1.1, standoff 0, extent 3.215,-0.885 5.715,-0.385
3D body: height 1.1, standoff 0, extent 3.215,0.385 5.715,0.885
3D body: height 1.1, standoff 0, extent 3.215,2.925 5.715,3.425
3D body: height 1.1, standoff 0, extent 3.215,1.655 5.715,2.155
3D body: height 1.1, standoff 0, extent 3.215,5.465 5.715,5.965
3D body: height 1.1, standoff 0, extent 3.215,4.195 5.715,4.695
3D body: height 1.1, standoff 0, extent 3.215,8.005 5.715,8.505
3D body: height 1.1, standoff 0, extent 3.215,6.735 5.715,7.235
3D body: height 1.1, standoff 0, extent -5.715,0.385 -3.215,0.885
3D body: height 1.1, standoff 0, extent -5.715,-0.885 -3.215,-0.385
3D body: height 1.1, standoff 0, extent -5.715,2.925 -3.215,3.425
3D body: height 1.1, standoff 0, extent -5.715,1.655 -3.215,2.155
3D body: height 1.1, standoff 0, extent -5.715,5.465 -3.215,5.965
3D body: height 1.1, standoff 0, extent -5.715,4.195 -3.215,4.695
3D body: height 1.1, standoff 0, extent -5.715,6.735 -3.215,7.235
3D body: height 1.1, standoff 0, extent -5.715,8.005 -3.215,8.505

## SOJ28 [mm]
pads (28):
  rect 2x0.7 smd: 1(0.254,0) 2(0.254,-1.27) 3(0.254,-2.54) 4(0.254,-3.81) 5(0.254,-5.08) 6(0.254,-6.35) 7(0.254,-7.62) 8(0.254,-8.89) 9(0.254,-10.16) 10(0.254,-11.43) 11(0.254,-12.7) 12(0.254,-13.97) 13(0.254,-15.24) 14(0.254,-16.51) 15(7.366,-16.51) 16(7.366,-15.24) 17(7.366,-13.97) 18(7.366,-12.7) 19(7.366,-11.43) 20(7.366,-10.16) 21(7.366,-8.89) 22(7.366,-7.62) 23(7.366,-6.35) 24(7.366,-5.08) 25(7.366,-3.81) 26(7.366,-2.54) 27(7.366,-1.27) 28(7.366,0)
Top Overlay:
  lines w0.3: -1.27,-16.51 -1.27,-18.415 0.635,-18.415 ; -1.27,0 -1.27,0.635 0,1.905 0.635,1.905 ; 6.985,-18.415 8.89,-18.415 8.89,-16.51 ; 6.985,1.905 8.89,1.905 8.89,0
Mechanical 1:
  circle w0.3: c1.27,-0.254 r0.508
  lines w0.3: 0,-16.764 -0.508,-16.764 -0.508,-16.256 0,-16.256 ; 0,-15.494 -0.508,-15.494 -0.508,-14.986 0,-14.986 ; 0,-14.224 -0.508,-14.224 -0.508,-13.716 0,-13.716 ; 0,-12.954 -0.508,-12.954 -0.508,-12.446 0,-12.446 ; 0,-11.684 -0.508,-11.684 -0.508,-11.176 0,-11.176 ; 0,-10.414 -0.508,-10.414 -0.508,-9.906 0,-9.906 ; 0,-9.144 -0.508,-9.144 -0.508,-8.636 0,-8.636 ; 0,-7.874 -0.508,-7.874 -0.508,-7.366 0,-7.366 ; 0,-6.604 -0.508,-6.604 -0.508,-6.096 0,-6.096 ; 0,-5.334 -0.508,-5.334 -0.508,-4.826 0,-4.826 ; 0,-4.064 -0.508,-4.064 -0.508,-3.556 0,-3.556 ; 0,-2.794 -0.508,-2.794 -0.508,-2.286 0,-2.286 ; 0,-1.524 -0.508,-1.524 -0.508,-1.016 0,-1.016 ; 0,-0.254 -0.508,-0.254 -0.508,0.254 0,0.254 ; 7.62,-16.764 8.128,-16.764 8.128,-16.256 7.62,-16.256 ; 7.62,-15.494 8.128,-15.494 8.128,-14.986 7.62,-14.986 ; 7.62,-14.224 8.128,-14.224 8.128,-13.716 7.62,-13.716 ; 7.62,-12.954 8.128,-12.954 8.128,-12.446 7.62,-12.446 ; 7.62,-11.684 8.128,-11.684 8.128,-11.176 7.62,-11.176 ; 7.62,-10.414 8.128,-10.414 8.128,-9.906 7.62,-9.906 ; 7.62,-9.144 8.128,-9.144 8.128,-8.636 7.62,-8.636 ; 7.62,-7.874 8.128,-7.874 8.128,-7.366 7.62,-7.366 ; 7.62,-6.604 8.128,-6.604 8.128,-6.096 7.62,-6.096 ; 7.62,-5.334 8.128,-5.334 8.128,-4.826 7.62,-4.826 ; 7.62,-4.064 8.128,-4.064 8.128,-3.556 7.62,-3.556 ; 7.62,-2.794 8.128,-2.794 8.128,-2.286 7.62,-2.286 ; 7.62,-1.524 8.128,-1.524 8.128,-1.016 7.62,-1.016 ; 7.62,-0.254 8.128,-0.254 8.128,0.254 7.62,0.254 ; 0,-17.526 7.62,-17.526 7.62,1.016 0,1.016 0,-17.526

## TDFP38 [mm]
height 1.2
pads (38):
  rect 1.5x0.25 smd: 1(-2.95,4.5) 2(-2.95,4) 3(-2.95,3.5) 4(-2.95,3) 5(-2.95,2.5) 6(-2.95,2) 7(-2.95,1.5) 8(-2.95,1) 9(-2.95,0.5) 10(-2.95,0) 11(-2.95,-0.5) 12(-2.95,-1) 13(-2.95,-1.5) 14(-2.95,-2) 15(-2.95,-2.5) 16(-2.95,-3) 17(-2.95,-3.5) 18(-2.95,-4) 19(-2.95,-4.5) 20(2.95,-4.5) 21(2.95,-4) 22(2.95,-3.5) 23(2.95,-3) 24(2.95,-2.5) 25(2.95,-2) 26(2.95,-1.5) 27(2.95,-1) 28(2.95,-0.5) 29(2.95,0) 30(2.95,0.5) 31(2.95,1) 32(2.95,1.5) 33(2.95,2) 34(2.95,2.5) 35(2.95,3) 36(2.95,3.5) 37(2.95,4) 38(2.95,4.5)
Top Overlay:
  lines w0.3: -2.7,-5.1 -2.7,-5.3 -2.5,-5.5 2.5,-5.5 2.7,-5.3 2.7,-5.1 ; -2.7,5.1 -2.7,5.3 -2.5,5.5 -0.5,5.5 -0.2,5.2 0.2,5.2 0.5,5.5 2.5,5.5 2.7,5.3 2.7,5.1
Mechanical 1:
  circle w0.1: c-1.3,4 r0.4
  lines w0.1: -3.2,-4.5 -2.2,-4.5 ; -3.2,-4 -2.2,-4 ; -3.2,-3.5 -2.2,-3.5 ; -3.2,-3 -2.2,-3 ; -3.2,-2.5 -2.2,-2.5 ; -3.2,-2 -2.2,-2 ; -3.2,-1.5 -2.2,-1.5 ; -3.2,-1 -2.2,-1 ; -3.2,-0.5 -2.2,-0.5 ; -3.2,0 -2.2,0 ; -3.2,0.5 -2.2,0.5 ; -3.2,1 -2.2,1 ; -3.2,1.5 -2.2,1.5 ; -3.2,2 -2.2,2 ; -3.2,2.5 -2.2,2.5 ; -3.2,3 -2.2,3 ; -3.2,3.5 -2.2,3.5 ; -3.2,4 -2.2,4 ; -3.2,4.5 -2.2,4.5 ; 2.2,-4.5 3.2,-4.5 ; 2.2,-4 3.2,-4 ; 2.2,-3.5 3.2,-3.5 ; 2.2,-3 3.2,-3 ; 2.2,-2.5 3.2,-2.5 ; 2.2,-2 3.2,-2 ; 2.2,-1.5 3.2,-1.5 ; 2.2,-1 3.2,-1 ; 2.2,-0.5 3.2,-0.5 ; 2.2,0 3.2,0 ; 2.2,0.5 3.2,0.5 ; 2.2,1 3.2,1 ; 2.2,1.5 3.2,1.5 ; 2.2,2 3.2,2 ; 2.2,2.5 3.2,2.5 ; 2.2,3 3.2,3 ; 2.2,3.5 3.2,3.5 ; 2.2,4 3.2,4 ; 2.2,4.5 3.2,4.5 ; -2.2,-4.9 2.2,-4.9 2.2,4.9 -2.2,4.9 -2.2,-4.9
3D body: height 0.75, standoff 0, extent 1.602,-4.6 3.3,-4.4
3D body: height 0.75, standoff 0, extent 1.602,-4.1 3.3,-3.9
3D body: height 0.75, standoff 0, extent 1.602,-2.6 3.3,-2.4
3D body: height 0.75, standoff 0, extent 1.602,-2.1 3.3,-1.9
3D body: height 0.75, standoff 0, extent 1.602,-3.1 3.3,-2.9
3D body: height 0.75, standoff 0, extent 1.602,-3.6 3.3,-3.4
3D body: height 0.75, standoff 0, extent 1.602,-0.6 3.3,-0.4
3D body: height 0.75, standoff 0, extent 1.602,-0.1 3.3,0.1
3D body: height 0.75, standoff 0, extent 1.602,-1.1 3.3,-0.9
3D body: height 0.75, standoff 0, extent 1.602,-1.6 3.3,-1.4
3D body: height 0.75, standoff 0, extent 1.602,1.4 3.3,1.6
3D body: height 0.75, standoff 0, extent 1.602,1.9 3.3,2.1
3D body: height 0.75, standoff 0, extent 1.602,0.9 3.3,1.1
3D body: height 0.75, standoff 0, extent 1.602,0.4 3.3,0.6
3D body: height 0.75, standoff 0, extent 1.602,3.4 3.3,3.6
3D body: height 0.75, standoff 0, extent 1.602,3.9 3.3,4.1
3D body: height 0.75, standoff 0, extent 1.602,2.9 3.3,3.1
3D body: height 0.75, standoff 0, extent 1.602,2.4 3.3,2.6
3D body: height 0.75, standoff 0, extent 1.602,4.4 3.3,4.6
3D body: height 0.75, standoff 0, extent -3.3,-3.6 -1.602,-3.4
3D body: height 0.75, standoff 0, extent -3.3,-4.1 -1.602,-3.9
3D body: height 0.75, standoff 0, extent -3.3,-4.6 -1.602,-4.4
3D body: height 0.75, standoff 0, extent -3.3,-1.6 -1.602,-1.4
3D body: height 0.75, standoff 0, extent -3.3,-2.1 -1.602,-1.9
3D body: height 0.75, standoff 0, extent -3.3,-3.1 -1.602,-2.9
3D body: height 0.75, standoff 0, extent -3.3,-2.6 -1.602,-2.4
3D body: height 0.75, standoff 0, extent -3.3,0.4 -1.602,0.6
3D body: height 0.75, standoff 0, extent -3.3,-0.1 -1.602,0.1
3D body: height 0.75, standoff 0, extent -3.3,-1.1 -1.602,-0.9
3D body: height 0.75, standoff 0, extent -3.3,-0.6 -1.602,-0.4
3D body: height 0.75, standoff 0, extent -3.3,2.4 -1.602,2.6
3D body: height 0.75, standoff 0, extent -3.3,1.9 -1.602,2.1
3D body: height 0.75, standoff 0, extent -3.3,0.9 -1.602,1.1
3D body: height 0.75, standoff 0, extent -3.3,1.4 -1.602,1.6
3D body: height 0.75, standoff 0, extent -3.3,3.4 -1.602,3.6
3D body: height 0.75, standoff 0, extent -3.3,2.9 -1.602,3.1
3D body: height 0.75, standoff 0, extent -3.3,3.9 -1.602,4.1
3D body: height 0.75, standoff 0, extent -3.3,4.4 -1.602,4.6
3D body: height 1.2, standoff 0.1, extent -2.2,-4.9 2.2,4.9

## TSOP44-08-12 [mm]
pads (44):
  rect 1.5x0.4 smd: 1(-5.8,8.4) 2(-5.8,7.6) 3(-5.8,6.8) 4(-5.8,6) 5(-5.8,5.2) 6(-5.8,4.4) 7(-5.8,3.6) 8(-5.8,2.8) 9(-5.8,2) 10(-5.8,1.2) 11(-5.8,0.4) 12(-5.8,-0.4) 13(-5.8,-1.2) 14(-5.8,-2) 15(-5.8,-2.8) 16(-5.8,-3.6) 17(-5.8,-4.4) 18(-5.8,-5.2) 19(-5.8,-6) 20(-5.8,-6.8) 21(-5.8,-7.6) 22(-5.8,-8.4) 23(5.8,-8.4) 24(5.8,-7.6) 25(5.8,-6.8) 26(5.8,-6) 27(5.8,-5.2) 28(5.8,-4.4) 29(5.8,-3.6) 30(5.8,-2.8) 31(5.8,-2) 32(5.8,-1.2) 33(5.8,-0.4) 34(5.8,0.4) 35(5.8,1.2) 36(5.8,2) 37(5.8,2.8) 38(5.8,3.6) 39(5.8,4.4) 40(5.8,5.2) 41(5.8,6) 42(5.8,6.8) 43(5.8,7.6) 44(5.8,8.4)
Top Overlay:
  lines w0.3: -5.6,-9.2 -5.6,-10.4 5.6,-10.4 5.6,-9.2 ; -4.4,10.4 -5.6,9.2 -5.6,10.4 5.6,10.4 5.6,9.2
Mechanical 1:
  circle w0.3: c-3.2,7.2 r0.8
  lines w0.3: -6,-8.4 -5.1,-8.4 ; -6,-7.6 -5.1,-7.6 ; -6,-6.8 -5.1,-6.8 ; -6,-6 -5.1,-6 ; -6,-5.2 -5.1,-5.2 ; -6,-4.4 -5.1,-4.4 ; -6,-3.6 -5.1,-3.6 ; -6,-2.8 -5.1,-2.8 ; -6,-2 -5.1,-2 ; -6,-1.2 -5.1,-1.2 ; -6,-0.4 -5.1,-0.4 ; -6,0.4 -5.1,0.4 ; -6,1.2 -5.1,1.2 ; -6,2 -5.1,2 ; -6,2.8 -5.1,2.8 ; -6,3.6 -5.1,3.6 ; -6,4.4 -5.1,4.4 ; -6,5.2 -5.1,5.2 ; -6,6 -5.1,6 ; -6,6.8 -5.1,6.8 ; -6,7.6 -5.1,7.6 ; -6,8.4 -5.1,8.4 ; 5.1,-8.4 6,-8.4 ; 5.1,-7.6 6,-7.6 ; 5.1,-6.8 6,-6.8 ; 5.1,-6 6,-6 ; 5.1,-5.2 6,-5.2 ; 5.1,-4.4 6,-4.4 ; 5.1,-3.6 6,-3.6 ; 5.1,-2.8 6,-2.8 ; 5.1,-2 6,-2 ; 5.1,-1.2 6,-1.2 ; 5.1,-0.4 6,-0.4 ; 5.1,0.4 6,0.4 ; 5.1,1.2 6,1.2 ; 5.1,2 6,2 ; 5.1,2.8 6,2.8 ; 5.1,3.6 6,3.6 ; 5.1,4.4 6,4.4 ; 5.1,5.2 6,5.2 ; 5.1,6 6,6 ; 5.1,6.8 6,6.8 ; 5.1,7.6 6,7.6 ; 5.1,8.4 6,8.4 ; -5.1,-9.1 -5.1,9.1 5.1,9.1 5.1,-9.1 -5.1,-9.1

## TSOP48-05-20 [mm]
height 1.2
pads (48):
  rect 1.5x0.25 smd: 1(-9.75,5.75) 2(-9.75,5.25) 3(-9.75,4.75) 4(-9.75,4.25) 5(-9.75,3.75) 6(-9.75,3.25) 7(-9.75,2.75) 8(-9.75,2.25) 9(-9.75,1.75) 10(-9.75,1.25) 11(-9.75,0.75) 12(-9.75,0.25) 13(-9.75,-0.25) 14(-9.75,-0.75) 15(-9.75,-1.25) 16(-9.75,-1.75) 17(-9.75,-2.25) 18(-9.75,-2.75) 19(-9.75,-3.25) 20(-9.75,-3.75) 21(-9.75,-4.25) 22(-9.75,-4.75) 23(-9.75,-5.25) 24(-9.75,-5.75) 25(9.75,-5.75) 26(9.75,-5.25) 27(9.75,-4.75) 28(9.75,-4.25) 29(9.75,-3.75) 30(9.75,-3.25) 31(9.75,-2.75) 32(9.75,-2.25) 33(9.75,-1.75) 34(9.75,-1.25) 35(9.75,-0.75) 36(9.75,-0.25) 37(9.75,0.25) 38(9.75,0.75) 39(9.75,1.25) 40(9.75,1.75) 41(9.75,2.25) 42(9.75,2.75) 43(9.75,3.25) 44(9.75,3.75) 45(9.75,4.25) 46(9.75,4.75) 47(9.75,5.25) 48(9.75,5.75)
Top Overlay:
  lines w0.15: -9.5,-6.25 -9.5,-7.25 9.5,-7.25 9.5,-6.25 ; -9.5,6.25 -9.5,7.25 9.5,7.25 9.5,6.25 ; -1.5,7.25 -1.5,6.25 1.5,6.25 1.5,7.25
Mechanical 1:
  circle w0.1: c-7,4.25 r1
  lines w0.1: -10,-5.75 -9,-5.75 ; -10,-5.25 -9,-5.25 ; -10,-4.75 -9,-4.75 ; -10,-4.25 -9,-4.25 ; -10,-3.75 -9,-3.75 ; -10,-3.25 -9,-3.25 ; -10,-2.75 -9,-2.75 ; -10,-2.25 -9,-2.25 ; -10,-1.75 -9,-1.75 ; -10,-1.25 -9,-1.25 ; -10,-0.75 -9,-0.75 ; -10,-0.25 -9,-0.25 ; -10,0.25 -9,0.25 ; -10,0.75 -9,0.75 ; -10,1.25 -9,1.25 ; -10,1.75 -9,1.75 ; -10,2.25 -9,2.25 ; -10,2.75 -9,2.75 ; -10,3.25 -9,3.25 ; -10,3.75 -9,3.75 ; -10,4.25 -9,4.25 ; -10,4.75 -9,4.75 ; -10,5.25 -9,5.25 ; -10,5.75 -9,5.75 ; 9,-5.75 10,-5.75 ; 9,-5.25 10,-5.25 ; 9,-4.75 10,-4.75 ; 9,-4.25 10,-4.25 ; 9,-3.75 10,-3.75 ; 9,-3.25 10,-3.25 ; 9,-2.75 10,-2.75 ; 9,-2.25 10,-2.25 ; 9,-1.75 10,-1.75 ; 9,-1.25 10,-1.25 ; 9,-0.75 10,-0.75 ; 9,-0.25 10,-0.25 ; 9,0.25 10,0.25 ; 9,0.75 10,0.75 ; 9,1.25 10,1.25 ; 9,1.75 10,1.75 ; 9,2.25 10,2.25 ; 9,2.75 10,2.75 ; 9,3.25 10,3.25 ; 9,3.75 10,3.75 ; 9,4.25 10,4.25 ; 9,4.75 10,4.75 ; 9,5.25 10,5.25 ; 9,5.75 10,5.75 ; -9,-6 9,-6 9,6 -9,6 -9,-6
3D body: height 0.75, standoff 0, extent 8.402,-4.85 10.1,-4.65
3D body: height 0.75, standoff 0, extent 8.4,-4.36 10.098,-4.16
3D body: height 0.75, standoff 0, extent 8.4,-5.36 10.098,-5.16
3D body: height 0.75, standoff 0, extent 8.402,-5.85 10.1,-5.65
3D body: height 0.75, standoff 0, extent 8.402,-2.85 10.1,-2.65
3D body: height 0.75, standoff 0, extent 8.4,-2.36 10.098,-2.16
3D body: height 0.75, standoff 0, extent 8.4,-3.36 10.098,-3.16
3D body: height 0.75, standoff 0, extent 8.402,-3.85 10.1,-3.65
3D body: height 0.75, standoff 0, extent 8.402,0.15 10.1,0.35
3D body: height 0.75, standoff 0, extent 8.4,0.64 10.098,0.84
3D body: height 0.75, standoff 0, extent 8.4,1.64 10.098,1.84
3D body: height 0.75, standoff 0, extent 8.402,1.15 10.1,1.35
3D body: height 0.75, standoff 0, extent 8.402,-1.85 10.1,-1.65
3D body: height 0.75, standoff 0, extent 8.4,-1.36 10.098,-1.16
3D body: height 0.75, standoff 0, extent 8.4,-0.36 10.098,-0.16
3D body: height 0.75, standoff 0, extent 8.402,-0.85 10.1,-0.65
3D body: height 0.75, standoff 0, extent 8.402,4.15 10.1,4.35
3D body: height 0.75, standoff 0, extent 8.4,4.64 10.098,4.84
3D body: height 0.75, standoff 0, extent 8.4,5.64 10.098,5.84
3D body: height 0.75, standoff 0, extent 8.402,5.15 10.1,5.35
3D body: height 0.75, standoff 0, extent 8.402,2.15 10.1,2.35
3D body: height 0.75, standoff 0, extent 8.4,2.64 10.098,2.84
3D body: height 0.75, standoff 0, extent 8.4,3.64 10.098,3.84
3D body: height 0.75, standoff 0, extent 8.402,3.15 10.1,3.35
3D body: height 0.75, standoff 0, extent -10.1,-3.35 -8.402,-3.15
3D body: height 0.75, standoff 0, extent -10.098,-3.84 -8.4,-3.64
3D body: height 0.75, standoff 0, extent -10.098,-2.84 -8.4,-2.64
3D body: height 0.75, standoff 0, extent -10.1,-2.35 -8.402,-2.15
3D body: height 0.75, standoff 0, extent -10.1,-5.35 -8.402,-5.15
3D body: height 0.75, standoff 0, extent -10.098,-5.84 -8.4,-5.64
3D body: height 0.75, standoff 0, extent -10.098,-4.84 -8.4,-4.64
3D body: height 0.75, standoff 0, extent -10.1,-4.35 -8.402,-4.15
3D body: height 0.75, standoff 0, extent -10.1,0.65 -8.402,0.85
3D body: height 0.75, standoff 0, extent -10.098,0.16 -8.4,0.36
3D body: height 0.75, standoff 0, extent -10.098,1.16 -8.4,1.36
3D body: height 0.75, standoff 0, extent -10.1,1.65 -8.402,1.85
3D body: height 0.75, standoff 0, extent -10.1,-1.35 -8.402,-1.15
3D body: height 0.75, standoff 0, extent -10.098,-1.84 -8.4,-1.64
3D body: height 0.75, standoff 0, extent -10.098,-0.84 -8.4,-0.64
3D body: height 0.75, standoff 0, extent -10.1,-0.35 -8.402,-0.15
3D body: height 0.75, standoff 0, extent -10.1,3.65 -8.402,3.85
3D body: height 0.75, standoff 0, extent -10.098,3.16 -8.4,3.36
3D body: height 0.75, standoff 0, extent -10.098,2.16 -8.4,2.36
3D body: height 0.75, standoff 0, extent -10.1,2.65 -8.402,2.85
3D body: height 0.75, standoff 0, extent -10.1,5.65 -8.402,5.85
3D body: height 0.75, standoff 0, extent -10.098,5.16 -8.4,5.36
3D body: height 0.75, standoff 0, extent -10.098,4.16 -8.4,4.36
3D body: height 0.75, standoff 0, extent -10.1,4.65 -8.402,4.85
3D body: height 1.2, standoff 0.2, extent -9,-6 9,6

## TSOP54-08-12 [mm]
pads (54):
  rect 1.5x0.4 smd: 1(-5.8,10.4) 2(-5.8,9.6) 3(-5.8,8.8) 4(-5.8,8) 5(-5.8,7.2) 6(-5.8,6.4) 7(-5.8,5.6) 8(-5.8,4.8) 9(-5.8,4) 10(-5.8,3.2) 11(-5.8,2.4) 12(-5.8,1.6) 13(-5.8,0.8) 14(-5.8,0) 15(-5.8,-0.8) 16(-5.8,-1.6) 17(-5.8,-2.4) 18(-5.8,-3.2) 19(-5.8,-4) 20(-5.8,-4.8) 21(-5.8,-5.6) 22(-5.8,-6.4) 23(-5.8,-7.2) 24(-5.8,-8) 25(-5.8,-8.8) 26(-5.8,-9.6) 27(-5.8,-10.4) 28(5.8,-10.4) 29(5.8,-9.6) 30(5.8,-8.8) 31(5.8,-8) 32(5.8,-7.2) 33(5.8,-6.4) 34(5.8,-5.6) 35(5.8,-4.8) 36(5.8,-4) 37(5.8,-3.2) 38(5.8,-2.4) 39(5.8,-1.6) 40(5.8,-0.8) 41(5.8,0) 42(5.8,0.8) 43(5.8,1.6) 44(5.8,2.4) 45(5.8,3.2) 46(5.8,4) 47(5.8,4.8) 48(5.8,5.6) 49(5.8,6.4) 50(5.8,7.2) 51(5.8,8) 52(5.8,8.8) 53(5.8,9.6) 54(5.8,10.4)
Top Overlay:
  lines w0.3: -5.6,-11.2 -5.6,-12.4 5.6,-12.4 5.6,-11.2 ; -4.4,12.4 -5.6,11.2 -5.6,12.4 5.6,12.4 5.6,11.2 ; 1.6,-12.4 cw(c2.4,-12.4) 3.2,-12.4 ; 1.6,12.4 ccw(c2.4,12.4) 3.2,12.4
Mechanical 1:
  circle w0.3: c-3.2,9.2 r0.8
  lines w0.3: -6,-10.4 -5.1,-10.4 ; -6,-9.6 -5.1,-9.6 ; -6,-8.8 -5.1,-8.8 ; -6,-8 -5.1,-8 ; -6,-7.2 -5.1,-7.2 ; -6,-6.4 -5.1,-6.4 ; -6,-5.6 -5.1,-5.6 ; -6,-4.8 -5.1,-4.8 ; -6,-4 -5.1,-4 ; -6,-3.2 -5.1,-3.2 ; -6,-2.4 -5.1,-2.4 ; -6,-1.6 -5.1,-1.6 ; -6,-0.8 -5.1,-0.8 ; -6,0 -5.1,0 ; -6,0.8 -5.1,0.8 ; -6,1.6 -5.1,1.6 ; -6,2.4 -5.1,2.4 ; -6,3.2 -5.1,3.2 ; -6,4 -5.1,4 ; -6,4.8 -5.1,4.8 ; -6,5.6 -5.1,5.6 ; -6,6.4 -5.1,6.4 ; -6,7.2 -5.1,7.2 ; -6,8 -5.1,8 ; -6,8.8 -5.1,8.8 ; -6,9.6 -5.1,9.6 ; -6,10.4 -5.1,10.4 ; 5.1,-10.4 6,-10.4 ; 5.1,-9.6 6,-9.6 ; 5.1,-8.8 6,-8.8 ; 5.1,-8 6,-8 ; 5.1,-7.2 6,-7.2 ; 5.1,-6.4 6,-6.4 ; 5.1,-5.6 6,-5.6 ; 5.1,-4.8 6,-4.8 ; 5.1,-4 6,-4 ; 5.1,-3.2 6,-3.2 ; 5.1,-2.4 6,-2.4 ; 5.1,-1.6 6,-1.6 ; 5.1,-0.8 6,-0.8 ; 5.1,0 6,0 ; 5.1,0.8 6,0.8 ; 5.1,1.6 6,1.6 ; 5.1,2.4 6,2.4 ; 5.1,3.2 6,3.2 ; 5.1,4 6,4 ; 5.1,4.8 6,4.8 ; 5.1,5.6 6,5.6 ; 5.1,6.4 6,6.4 ; 5.1,7.2 6,7.2 ; 5.1,8 6,8 ; 5.1,8.8 6,8.8 ; 5.1,9.6 6,9.6 ; 5.1,10.4 6,10.4 ; -5.1,-11.1 1.5,-11.1 cw(c2.3,-11.1) 3.1,-11.1 5.1,-11.1 5.1,11.1 3.1,11.1 cw(c2.3,11.1) 1.5,11.1 -5.1,11.1 -5.1,-11.1

## TSSOP8-4MM [mm] "0.65mm pitch"
height 1.2
pads (8):
  rect 1x0.3 smd: 1(-2,0.975) 2(-2,0.325) 3(-2,-0.325) 4(-2,-0.975) 5(2,-0.975) 6(2,-0.325) 7(2,0.325) 8(2,0.975)
Top Overlay:
  lines w0.15: -2,-1.4 -2,-1.8 2,-1.8 2,-1.4 ; -0.8,1.8 -1.2,1.4 -2,1.4 -2,1.8 2,1.8 2,1.4
Mechanical 1:
  circle w0.1: c-0.8,0.9 r0.316
  lines w0.1: -2.2,-0.975 -1.4,-0.975 ; -2.2,-0.325 -1.4,-0.325 ; -2.2,0.325 -1.4,0.325 ; -2.2,0.975 -1.4,0.975 ; 1.4,-0.975 2.2,-0.975 ; 1.4,-0.325 2.2,-0.325 ; 1.4,0.325 2.2,0.325 ; 1.4,0.975 2.2,0.975 ; -1.4,-1.5 1.4,-1.5 1.4,1.5 -1.4,1.5 -1.4,-1.5
3D body: height 1.2, standoff 0.1, extent -1.4,-1.5 1.4,1.5
3D body: height 0.75, standoff 0, extent -2.3,-0.425 -0.602,-0.225
3D body: height 0.75, standoff 0, extent 0.602,-0.425 2.3,-0.225
3D body: height 0.75, standoff 0, extent 0.602,-1.075 2.3,-0.875
3D body: height 0.75, standoff 0, extent -2.3,-1.075 -0.602,-0.875
3D body: height 0.75, standoff 0, extent -2.3,0.875 -0.602,1.075
3D body: height 0.75, standoff 0, extent 0.602,0.875 2.3,1.075
3D body: height 0.75, standoff 0, extent 0.602,0.225 2.3,0.425
3D body: height 0.75, standoff 0, extent -2.3,0.225 -0.602,0.425

## TSSOP14 [mm] "0.65mm pitch"
height 1.2
pads (14):
  rect 1.5x0.35 smd: 1(-2.925,1.95) 2(-2.925,1.3) 3(-2.925,0.65) 4(-2.925,0) 5(-2.925,-0.65) 6(-2.925,-1.3) 7(-2.925,-1.95) 8(2.925,-1.95) 9(2.925,-1.3) 10(2.925,-0.65) 11(2.925,0) 12(2.925,0.65) 13(2.925,1.3) 14(2.925,1.95)
Top Overlay:
  lines w0.25: -3.25,-2.6 -3.25,-3.25 3.25,-3.25 3.25,-2.6 ; -3.25,2.6 -2.6,3.25 3.25,3.25 3.25,2.6
Mechanical 1:
  circle w0.1: c-1.3,1.3 r0.325
  lines w0.1: -3.25,-1.95 -2.275,-1.95 ; -3.25,-1.3 -2.275,-1.3 ; -3.25,-0.65 -2.275,-0.65 ; -3.25,0 -2.275,0 ; -3.25,0.65 -2.275,0.65 ; -3.25,1.3 -2.275,1.3 ; -3.25,1.95 -2.275,1.95 ; 2.275,-1.95 3.25,-1.95 ; 2.275,-1.3 3.25,-1.3 ; 2.275,-0.65 3.25,-0.65 ; 2.275,0 3.25,0 ; 2.275,0.65 3.25,0.65 ; 2.275,1.3 3.25,1.3 ; 2.275,1.95 3.25,1.95 ; -2.275,-2.275 2.275,-2.275 2.275,2.275 -2.275,2.275 -2.275,-2.275
3D body: height 1.2, standoff 0.1, extent -2.3,-2.3 2.3,2.3
3D body: height 0.75, standoff 0, extent -3.35,1.2 -1.652,1.4
3D body: height 0.75, standoff 0, extent 1.652,1.2 3.35,1.4
3D body: height 0.75, standoff 0, extent 1.652,1.85 3.35,2.05
3D body: height 0.75, standoff 0, extent -3.35,1.85 -1.652,2.05
3D body: height 0.75, standoff 0, extent -3.35,-0.1 -1.652,0.1
3D body: height 0.75, standoff 0, extent 1.652,-0.1 3.35,0.1
3D body: height 0.75, standoff 0, extent 1.652,0.55 3.35,0.75
3D body: height 0.75, standoff 0, extent -3.35,0.55 -1.652,0.75
3D body: height 0.75, standoff 0, extent -3.35,-1.4 -1.652,-1.2
3D body: height 0.75, standoff 0, extent 1.652,-1.4 3.35,-1.2
3D body: height 0.75, standoff 0, extent 1.652,-0.75 3.35,-0.55
3D body: height 0.75, standoff 0, extent -3.35,-0.75 -1.652,-0.55
3D body: height 0.75, standoff 0, extent 1.652,-2.05 3.35,-1.85
3D body: height 0.75, standoff 0, extent -3.35,-2.05 -1.652,-1.85